# Altium footprint library SMT_header_FTSH.PcbLib: 1 footprints
Each footprint in its own frame and in the unit in brackets; x right, y up, seen from the top. Pads: shape width x height; smd on the part's side, far side on the other; paste and mask are expansions set on the pad; w line width, h text height; cw(c..) or ccw(c..) is an arc to the next point about the centre after c.
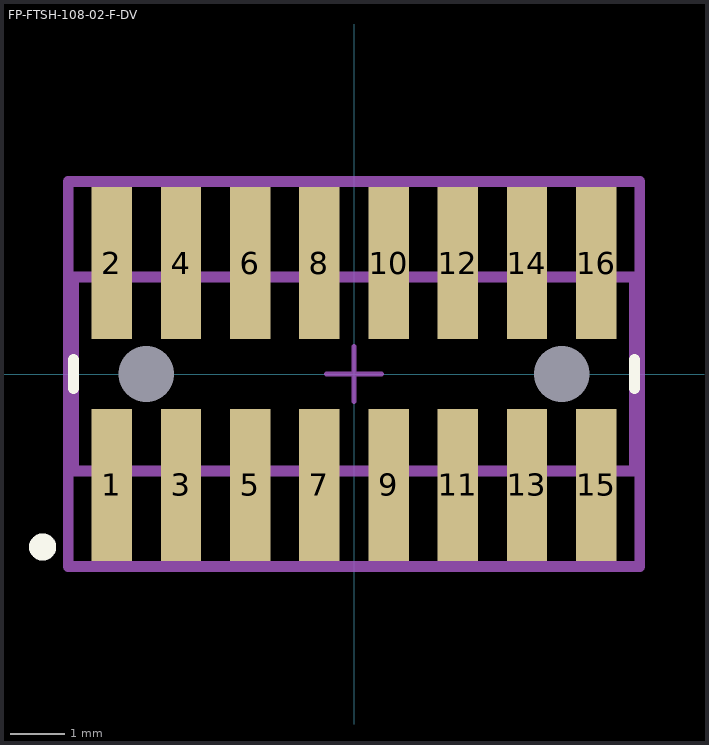
[diagram p0: the footprint, top view; thin cyan lines are the x and y axes]

## FP-FTSH-108-02-F-DV [mm]
pads (18):
  rect 0.74x2.79 smd paste+0 mask+0: 1(-4.445,-2.035) 2(-4.445,2.035) 3(-3.175,-2.035) 4(-3.175,2.035) 5(-1.905,-2.035) 6(-1.905,2.035) 7(-0.635,-2.035) 8(-0.635,2.035) 9(0.635,-2.035) 10(0.635,2.035) 11(1.905,-2.035) 12(1.905,2.035) 13(3.175,-2.035) 14(3.175,2.035) 15(4.445,-2.035) 16(4.445,2.035)
  round 0.1 hole 1.02 unplated: H1(-3.81,0) H2(3.81,0)
Top Overlay:
  circle w0.25: c-5.715,-3.175 r0.125
  lines w0.2: -5.145,-0.265 -5.145,0.265 ; 5.145,-0.265 5.145,0.265
Top Assembly:
  lines w0.2: -5.245,-3.53 5.245,-3.53 5.245,3.53 -5.245,3.53 -5.245,-3.53
  text ".Designator" at 0,0.188 h1
Top 3D Body:
  lines w0.2: -5.145,-1.78 5.145,-1.78 5.145,1.78 -5.145,1.78 -5.145,-1.78
Top Courtyard:
  lines w0.2: -5.245,-3.53 5.245,-3.53 5.245,3.53 -5.245,3.53 -5.245,-3.53
Top Component Center:
  lines w0.1: -0.5,0 0.5,0 ; 0,-0.5 0,0.5
3D body "Conn_Samtec_FTSH-108-02-F-DV_eec.STEP": height 0.25, standoff 0, extent -5.245,-3.53 5.245,3.53